# Altium footprint library Altium Example Master PCB Library.PcbLib: 219 footprints (part 8 of 14)
Each footprint in its own frame and in the unit in brackets; x right, y up, seen from the top. Pads: shape width x height; smd on the part's side, far side on the other; paste and mask are expansions set on the pad; w line width, h text height; cw(c..) or ccw(c..) is an arc to the next point about the centre after c.
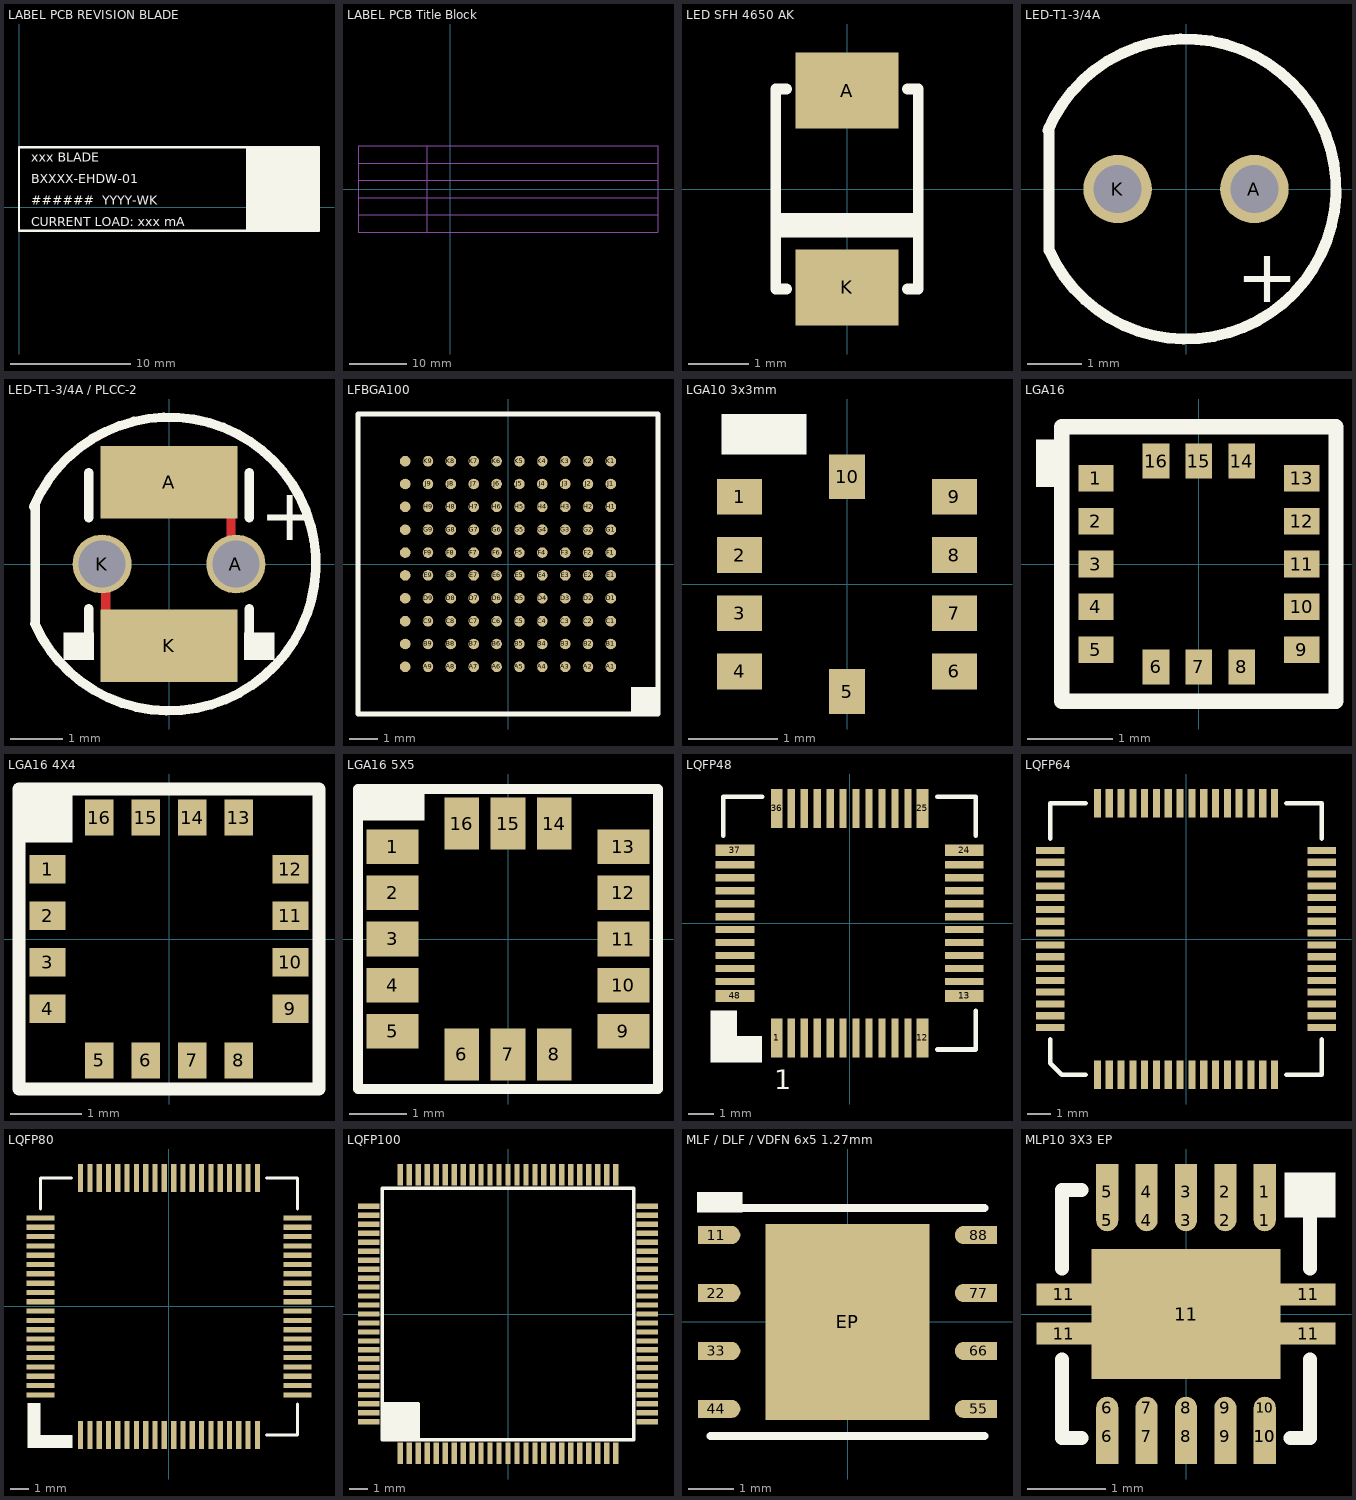
[diagram p7: the footprints below, top view; thin cyan lines are the x and y axes]

## LABEL PCB REVISION BLADE [mm]
Top Overlay:
  rectangle: 18.925,-1.95 24.975,4.925
  lines w0.178: 25,-1.95 0,-1.95 0,5 25,5
  lines w0.179: 25,-1.95 25,5
  text "BXXXX-EHDW-01" at 1,2 h0.76
  text "xxx BLADE" at 1,3.8 h0.76
  text "######  YYYY-WK" at 1,0.2 h0.76
  text "CURRENT LOAD: xxx mA" at 1,-1.6 h0.76

## LABEL PCB Title Block [mm]
Mechanical 2:
  lines w0.178: -16,-4.5 36,-4.5 ; -16,-1.5 36,-1.5 ; -16,1.5 36,1.5 ; -16,4.5 36,4.5 ; -4,-7.5 -4,7.5 ; -16,7.5 36,7.5 36,-7.5 -16,-7.5 -16,7.5 ; -16,7.5 -16,7.5
  text "Title:" at -15,5.5 h1.27
  text "Number:" at -15,2.5 h1.27
  text "Date:" at -15,-3.5 h1.27
  text "Revision:" at -15,-0.5 h1.27
  text "Author:" at -15,-6.5 h1.27

## LED SFH 4650 AK [mm]
pads (2):
  rect 1.7x1.25 smd: A(0,1.625) K(0,-1.625)
Top Overlay:
  rectangle: -1.175,-0.8 1.175,-0.4
  lines w0.178: -1,-1.65 -1.175,-1.65 -1.175,1.65 -1,1.65 ; 1,-1.65 1.175,-1.65 1.175,1.65 1,1.65

## LED-T1-3/4A [mil]
pads (2):
  round 50 hole 35: A(50,0) K(-50,0)
Top Overlay:
  lines w8: -100.94,42.85 cw(c0,0) -100.18,-44.6 ; -100,-45 -100,45
  text "+" at 36.61,-82.68 h39.37

## LED-T1-3/4A / PLCC-2 [mil]
pads (4):
  rect 102x54 smd: A(0,61) K(0,-61)
  round 44 / inner round 50 / far side round 50 hole 35: A(50,0) K(-50,0)
Top Layer:
  lines w7: -50,0 -47.24,-2.76 -47.24,-45.28 ; 46.26,62.01 46.26,3.74 50,0
Top Overlay:
  rectangle: 56.1,-71.85 78.74,-51.18
  region: -56.1,-51.18 -78.74,-51.18 -78.74,-71.85 -56.1,-71.85
  lines w7: -100.94,42.85 cw(c0,0) -100.18,-44.6 ; -100,-45 -100,45 ; -60,-68 -60,-33.46 ; -60,34.45 -60,68 ; 60,-68 60,-33.46 ; 60,34.45 60,68
  text "+" at 67.91,17.72 h39.37

## LFBGA100 [mm]
pads (100):
  round 0.37 smd paste+0: A1(3.6,-3.6) A2(2.8,-3.6) A3(2,-3.6) A4(1.2,-3.6) A5(0.4,-3.6) A6(-0.4,-3.6) A7(-1.2,-3.6) A8(-2,-3.6) A9(-2.8,-3.6) A10(-3.6,-3.6) B1(3.6,-2.8) B2(2.8,-2.8) B3(2,-2.8) B4(1.2,-2.8) B5(0.4,-2.8) B6(-0.4,-2.8) B7(-1.2,-2.8) B8(-2,-2.8) B9(-2.8,-2.8) B10(-3.6,-2.8) C1(3.6,-2) C2(2.8,-2) C3(2,-2) C4(1.2,-2) C5(0.4,-2) C6(-0.4,-2) C7(-1.2,-2) C8(-2,-2) C9(-2.8,-2) C10(-3.6,-2) D1(3.6,-1.2) D2(2.8,-1.2) D3(2,-1.2) D4(1.2,-1.2) D5(0.4,-1.2) D6(-0.4,-1.2) D7(-1.2,-1.2) D8(-2,-1.2) D9(-2.8,-1.2) D10(-3.6,-1.2) E1(3.6,-0.4) E2(2.8,-0.4) E3(2,-0.4) E4(1.2,-0.4) E5(0.4,-0.4) E6(-0.4,-0.4) E7(-1.2,-0.4) E8(-2,-0.4) E9(-2.8,-0.4) E10(-3.6,-0.4) F1(3.6,0.4) F2(2.8,0.4) F3(2,0.4) F4(1.2,0.4) F5(0.4,0.4) F6(-0.4,0.4) F7(-1.2,0.4) F8(-2,0.4) F9(-2.8,0.4) F10(-3.6,0.4) G1(3.6,1.2) G2(2.8,1.2) G3(2,1.2) G4(1.2,1.2) G5(0.4,1.2) G6(-0.4,1.2) G7(-1.2,1.2) G8(-2,1.2) G9(-2.8,1.2) G10(-3.6,1.2) H1(3.6,2) H2(2.8,2) H3(2,2) H4(1.2,2) H5(0.4,2) H6(-0.4,2) H7(-1.2,2) H8(-2,2) H9(-2.8,2) H10(-3.6,2) J1(3.6,2.8) J2(2.8,2.8) J3(2,2.8) J4(1.2,2.8) J5(0.4,2.8) J6(-0.4,2.8) J7(-1.2,2.8) J8(-2,2.8) J9(-2.8,2.8) J10(-3.6,2.8) K1(3.6,3.6) K2(2.8,3.6) K3(2,3.6) K4(1.2,3.6) K5(0.4,3.6) K6(-0.4,3.6) K7(-1.2,3.6) K8(-2,3.6) K9(-2.8,3.6) K10(-3.6,3.6)
Top Overlay:
  rectangle: 4.3,-5.25 5.25,-4.3
  lines w0.178: -5.25,-5.25 5.25,-5.25 5.25,5.25 -5.25,5.25 -5.25,-5.25

## LGA10 3x3mm [mm]
pads (10):
  rect 0.5x0.4 smd: 1(-1.2,0.975) 2(-1.2,0.325) 3(-1.2,-0.325) 4(-1.2,-0.975) 6(1.2,-0.975) 7(1.2,-0.325) 8(1.2,0.325) 9(1.2,0.975)
  rect 0.4x0.5 smd: 5(0,-1.2) 10(0,1.2)
Top Overlay:
  rectangle: -1.4,1.45 -0.45,1.9

## LGA16 [mm]
pads (16):
  rect 0.41x0.31 smd: 1(-1.2,1) 2(-1.2,0.5) 3(-1.2,0) 4(-1.2,-0.5) 5(-1.2,-1) 9(1.2,-1) 10(1.2,-0.5) 11(1.2,0) 12(1.2,0.5) 13(1.2,1)
  rect 0.31x0.41 smd: 6(-0.5,-1.2) 7(0,-1.2) 8(0.5,-1.2) 14(0.5,1.2) 15(0,1.2) 16(-0.5,1.2)
Top Overlay:
  rectangle: -1.9,0.9 -1.6,1.45
  lines w0.178: -1.6,-1.6 -1.6,1.6 1.6,1.6 1.6,-1.6 -1.6,-1.6

## LGA16 4X4 [mm]
pads (16):
  rect 0.5x0.4 smd: 1(-1.7,0.975) 2(-1.7,0.325) 3(-1.7,-0.325) 4(-1.7,-0.975) 9(1.7,-0.975) 10(1.7,-0.325) 11(1.7,0.325) 12(1.7,0.975)
  rect 0.4x0.5 smd: 5(-0.975,-1.7) 6(-0.325,-1.7) 7(0.325,-1.7) 8(0.975,-1.7) 13(0.975,1.7) 14(0.325,1.7) 15(-0.325,1.7) 16(-0.975,1.7)
Top Overlay:
  rectangle: -2.1,1.35 -1.35,2.1
  lines w0.178: -2.1,-2.1 2.1,-2.1 2.1,2.1 -2.1,2.1 -2.1,-2.1

## LGA16 5X5 [mm]
pads (16):
  rect 0.9x0.6 smd: 1(-2,1.6) 2(-2,0.8) 3(-2,0) 4(-2,-0.8) 5(-2,-1.6) 9(2,-1.6) 10(2,-0.8) 11(2,0) 12(2,0.8) 13(2,1.6)
  rect 0.6x0.9 smd: 6(-0.8,-2) 7(0,-2) 8(0.8,-2) 14(0.8,2) 15(0,2) 16(-0.8,2)
Top Overlay:
  rectangle: -2.6,2.05 -1.45,2.6
  lines w0.178: -2.6,-2.6 -2.6,2.6 2.6,2.6 2.6,-2.6 -2.6,-2.6

## LQFP48 [mm]
pads (48):
  rect 0.45x1.5 smd: 1(-2.81,-4.425) 12(2.81,-4.425) 25(2.81,4.425) 36(-2.81,4.425)
  rect 0.28x1.5 smd: 2(-2.25,-4.425) 3(-1.75,-4.425) 4(-1.25,-4.425) 5(-0.75,-4.425) 6(-0.25,-4.425) 7(0.25,-4.425) 8(0.75,-4.425) 9(1.25,-4.425) 10(1.75,-4.425) 11(2.25,-4.425) 26(2.25,4.425) 27(1.75,4.425) 28(1.25,4.425) 29(0.75,4.425) 30(0.25,4.425) 31(-0.25,4.425) 32(-0.75,4.425) 33(-1.25,4.425) 34(-1.75,4.425) 35(-2.25,4.425)
  rect 1.5x0.45 smd: 13(4.425,-2.81) 24(4.425,2.81) 37(-4.425,2.81) 48(-4.425,-2.81)
  rect 1.5x0.28 smd: 14(4.425,-2.25) 15(4.425,-1.75) 16(4.425,-1.25) 17(4.425,-0.75) 18(4.425,-0.25) 19(4.425,0.25) 20(4.425,0.75) 21(4.425,1.25) 22(4.425,1.75) 23(4.425,2.25) 38(-4.425,2.25) 39(-4.425,1.75) 40(-4.425,1.25) 41(-4.425,0.75) 42(-4.425,0.25) 43(-4.425,-0.25) 44(-4.425,-0.75) 45(-4.425,-1.25) 46(-4.425,-1.75) 47(-4.425,-2.25)
Top Overlay:
  rectangle: -5.375,-5.375 -4.35,-3.375
  region: -3.375,-5.375 -3.375,-4.35 -5.375,-4.35 -5.375,-5.375
  lines w0.178: -4.875,3.375 -4.875,4.875 -3.375,4.875 ; 3.375,-4.875 4.875,-4.875 4.875,-3.375 ; 3.375,4.875 4.875,4.875 4.875,3.375
  text "1" at -2.9,-6.4 h0.76

## LQFP64 [mm]
pads (64):
  rect 0.3x1.2 smd: 1(-3.75,-5.75) 2(-3.25,-5.75) 3(-2.75,-5.75) 4(-2.25,-5.75) 5(-1.75,-5.75) 6(-1.25,-5.75) 7(-0.75,-5.75) 8(-0.25,-5.75) 9(0.25,-5.75) 10(0.75,-5.75) 11(1.25,-5.75) 12(1.75,-5.75) 13(2.25,-5.75) 14(2.75,-5.75) 15(3.25,-5.75) 16(3.75,-5.75) 33(3.75,5.75) 34(3.25,5.75) 35(2.75,5.75) 36(2.25,5.75) 37(1.75,5.75) 38(1.25,5.75) 39(0.75,5.75) 40(0.25,5.75) 41(-0.25,5.75) 42(-0.75,5.75) 43(-1.25,5.75) 44(-1.75,5.75) 45(-2.25,5.75) 46(-2.75,5.75) 47(-3.25,5.75) 48(-3.75,5.75)
  rect 1.2x0.3 smd: 17(5.75,-3.75) 18(5.75,-3.25) 19(5.75,-2.75) 20(5.75,-2.25) 21(5.75,-1.75) 22(5.75,-1.25) 23(5.75,-0.75) 24(5.75,-0.25) 25(5.75,0.25) 26(5.75,0.75) 27(5.75,1.25) 28(5.75,1.75) 29(5.75,2.25) 30(5.75,2.75) 31(5.75,3.25) 32(5.75,3.75) 49(-5.75,3.75) 50(-5.75,3.25) 51(-5.75,2.75) 52(-5.75,2.25) 53(-5.75,1.75) 54(-5.75,1.25) 55(-5.75,0.75) 56(-5.75,0.25) 57(-5.75,-0.25) 58(-5.75,-0.75) 59(-5.75,-1.25) 60(-5.75,-1.75) 61(-5.75,-2.25) 62(-5.75,-2.75) 63(-5.75,-3.25) 64(-5.75,-3.75)
Top Overlay:
  lines w0.2: -5.75,-4.25 -5.75,-5.25 -5.25,-5.75 -4.25,-5.75 ; -5.75,4.25 -5.75,5.75 -4.25,5.75 ; 4.25,-5.75 5.75,-5.75 5.75,-4.25 ; 4.25,5.75 5.75,5.75 5.75,4.25

## LQFP80 [mm]
pads (80):
  rect 0.28x1.5 smd: 1(-4.75,-6.9) 2(-4.25,-6.9) 3(-3.75,-6.9) 4(-3.25,-6.9) 5(-2.75,-6.9) 6(-2.25,-6.9) 7(-1.75,-6.9) 8(-1.25,-6.9) 9(-0.75,-6.9) 10(-0.25,-6.9) 11(0.25,-6.9) 12(0.75,-6.9) 13(1.25,-6.9) 14(1.75,-6.9) 15(2.25,-6.9) 16(2.75,-6.9) 17(3.25,-6.9) 18(3.75,-6.9) 19(4.25,-6.9) 20(4.75,-6.9) 41(4.75,6.9) 42(4.25,6.9) 43(3.75,6.9) 44(3.25,6.9) 45(2.75,6.9) 46(2.25,6.9) 47(1.75,6.9) 48(1.25,6.9) 49(0.75,6.9) 50(0.25,6.9) 51(-0.25,6.9) 52(-0.75,6.9) 53(-1.25,6.9) 54(-1.75,6.9) 55(-2.25,6.9) 56(-2.75,6.9) 57(-3.25,6.9) 58(-3.75,6.9) 59(-4.25,6.9) 60(-4.75,6.9)
  rect 1.5x0.28 smd: 21(6.9,-4.75) 22(6.9,-4.25) 23(6.9,-3.75) 24(6.9,-3.25) 25(6.9,-2.75) 26(6.9,-2.25) 27(6.9,-1.75) 28(6.9,-1.25) 29(6.9,-0.75) 30(6.9,-0.25) 31(6.9,0.25) 32(6.9,0.75) 33(6.9,1.25) 34(6.9,1.75) 35(6.9,2.25) 36(6.9,2.75) 37(6.9,3.25) 38(6.9,3.75) 39(6.9,4.25) 40(6.9,4.75) 61(-6.9,4.75) 62(-6.9,4.25) 63(-6.9,3.75) 64(-6.9,3.25) 65(-6.9,2.75) 66(-6.9,2.25) 67(-6.9,1.75) 68(-6.9,1.25) 69(-6.9,0.75) 70(-6.9,0.25) 71(-6.9,-0.25) 72(-6.9,-0.75) 73(-6.9,-1.25) 74(-6.9,-1.75) 75(-6.9,-2.25) 76(-6.9,-2.75) 77(-6.9,-3.25) 78(-6.9,-3.75) 79(-6.9,-4.25) 80(-6.9,-4.75)
Top Overlay:
  region: -5.175,-7.6 -5.175,-6.9 -7.6,-6.9 -7.6,-7.6
  rectangle: -7.6,-7.575 -6.9,-5.175
  lines w0.178: -6.9,5.25 -6.9,6.9 -5.25,6.9 ; 5.25,-6.9 6.9,-6.9 6.9,-5.25 ; 5.25,6.9 6.9,6.9 6.9,5.25

## LQFP100 [mm]
height 0.002
pads (100):
  rect 0.3x1.2 smd: 1(-6,-7.75) 2(-5.5,-7.75) 3(-5,-7.75) 4(-4.5,-7.75) 5(-4,-7.75) 6(-3.5,-7.75) 7(-3,-7.75) 8(-2.5,-7.75) 9(-2,-7.75) 10(-1.5,-7.75) 11(-1,-7.75) 12(-0.5,-7.75) 13(0,-7.75) 14(0.5,-7.75) 15(1,-7.75) 16(1.5,-7.75) 17(2,-7.75) 18(2.5,-7.75) 19(3,-7.75) 20(3.5,-7.75) 21(4,-7.75) 22(4.5,-7.75) 23(5,-7.75) 24(5.5,-7.75) 25(6,-7.75) 51(6,7.75) 52(5.5,7.75) 53(5,7.75) 54(4.5,7.75) 55(4,7.75) 56(3.5,7.75) 57(3,7.75) 58(2.5,7.75) 59(2,7.75) 60(1.5,7.75) 61(1,7.75) 62(0.5,7.75) 63(0,7.75) 64(-0.5,7.75) 65(-1,7.75) 66(-1.5,7.75) 67(-2,7.75) 68(-2.5,7.75) 69(-3,7.75) 70(-3.5,7.75) 71(-4,7.75) 72(-4.5,7.75) 73(-5,7.75) 74(-5.5,7.75) 75(-6,7.75)
  rect 1.2x0.3 smd: 26(7.75,-6) 27(7.75,-5.5) 28(7.75,-5) 29(7.75,-4.5) 30(7.75,-4) 31(7.75,-3.5) 32(7.75,-3) 33(7.75,-2.5) 34(7.75,-2) 35(7.75,-1.5) 36(7.75,-1) 37(7.75,-0.5) 38(7.75,0) 39(7.75,0.5) 40(7.75,1) 41(7.75,1.5) 42(7.75,2) 43(7.75,2.5) 44(7.75,3) 45(7.75,3.5) 46(7.75,4) 47(7.75,4.5) 48(7.75,5) 49(7.75,5.5) 50(7.75,6) 76(-7.75,6) 77(-7.75,5.5) 78(-7.75,5) 79(-7.75,4.5) 80(-7.75,4) 81(-7.75,3.5) 82(-7.75,3) 83(-7.75,2.5) 84(-7.75,2) 85(-7.75,1.5) 86(-7.75,1) 87(-7.75,0.5) 88(-7.75,0) 89(-7.75,-0.5) 90(-7.75,-1) 91(-7.75,-1.5) 92(-7.75,-2) 93(-7.75,-2.5) 94(-7.75,-3) 95(-7.75,-3.5) 96(-7.75,-4) 97(-7.75,-4.5) 98(-7.75,-5) 99(-7.75,-5.5) 100(-7.75,-6)
Top Overlay:
  rectangle: -7,-7 -5.05,-5
  lines w0.178: -7,-5 -5,-5 -5,-7 ; -7,-7 -7,7 7,7 7,-7 -7,-7

## MLF / DLF / VDFN 6x5 1.27mm [mm] "MLF / DLF / VDFN 6x5 1.27mm"
pads (17):
  rect 0.6x0.4 smd: 1(-2.975,1.905) 2(-2.975,0.635) 3(-2.975,-0.635) 4(-2.975,-1.905) 5(2.975,-1.905) 6(2.975,-0.635) 7(2.975,0.635) 8(2.975,1.905)
  oval 0.85x0.4 smd: 1(-2.775,1.905) 2(-2.775,0.635) 3(-2.775,-0.635) 4(-2.775,-1.905) 5(2.775,-1.905) 6(2.775,-0.635) 7(2.775,0.635) 8(2.775,1.905)
  rect 3.6x4.3 smd: EP(0,0)
Top Overlay:
  rectangle: -3.3,2.4 -2.3,2.85
  lines w0.178: -3,-2.5 3,-2.5 ; -3,2.5 3,2.5

## MLP10 3X3 EP [mm]
pads (27):
  round 0.28 smd: 1(1,1.19) 2(0.5,1.19) 3(0,1.19) 4(-0.5,1.19) 5(-1,1.19) 6(-1,-1.19) 7(-0.5,-1.19) 8(0,-1.19) 9(0.5,-1.19) 10(1,-1.19) 10(1,-1.19)
  rect 0.28x0.71 smd: 1(1,1.55) 2(0.5,1.55) 3(0,1.55) 4(-0.5,1.55) 5(-1,1.55) 6(-1,-1.55) 7(-0.5,-1.55) 8(0,-1.55) 9(0.5,-1.55) 10(1,-1.55) 10(1,-1.55)
  rect 0.7x0.28 smd: 11(-1.55,-0.25) 11(-1.55,0.25) 11(1.55,-0.25) 11(1.55,0.25)
  rect 2.4x1.65 smd: 11(0,0)
Top Overlay:
  rectangle: 1.25,1.225 1.9,1.8
  lines w0.178: -1.575,-0.575 -1.575,-1.575 -1.325,-1.575 ; -1.575,0.575 -1.575,1.575 -1.325,1.575 ; 1.325,-1.575 1.575,-1.575 1.575,-0.575 ; 1.575,0.575 1.575,1.575